# EAGLE library part 12PIN_LCD_PADS (library esp12display)
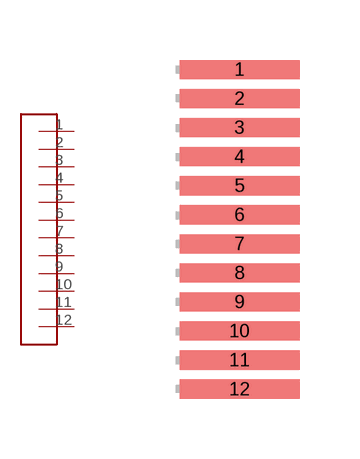
[diagram p0: symbol with the pads of PINS_ONLY; footprint PINS_ONLY]

Designator prefix -

## 12PIN_LCD_PADS  [PINS_ONLY]
1  P$1  pas
2  P$2  pas
3  P$3  pas
4  P$4  pas
5  P$5  pas
6  P$6  pas
7  P$7  pas
8  P$8  pas
9  P$9  pas
10  P$10  pas
11  P$11  pas
12  P$12  pas

## Footprint PINS_ONLY (pad centres in mm)
LC12PIN0.72mm
smd 3 x 0.48: 1 0,0; 2 0,-0.727; 3 0,-1.454; 4 0,-2.182; 5 0,-2.909; 6 0,-3.636; 7 0,-4.363; 8 0,-5.09; 9 0,-5.818; 10 0,-6.545; 11 0,-7.272; 12 0,-7.999